# Altium footprint library PCB - CAPACITOR - ALUMINIUM - CAP ALSMD POLY 5.3MM H6.0MM.PCBLIB: 1 footprints
Each footprint in its own frame and in the unit in brackets; x right, y up, seen from the top. Pads: shape width x height; smd on the part's side, far side on the other; paste and mask are expansions set on the pad; w line width, h text height; cw(c..) or ccw(c..) is an arc to the next point about the centre after c.
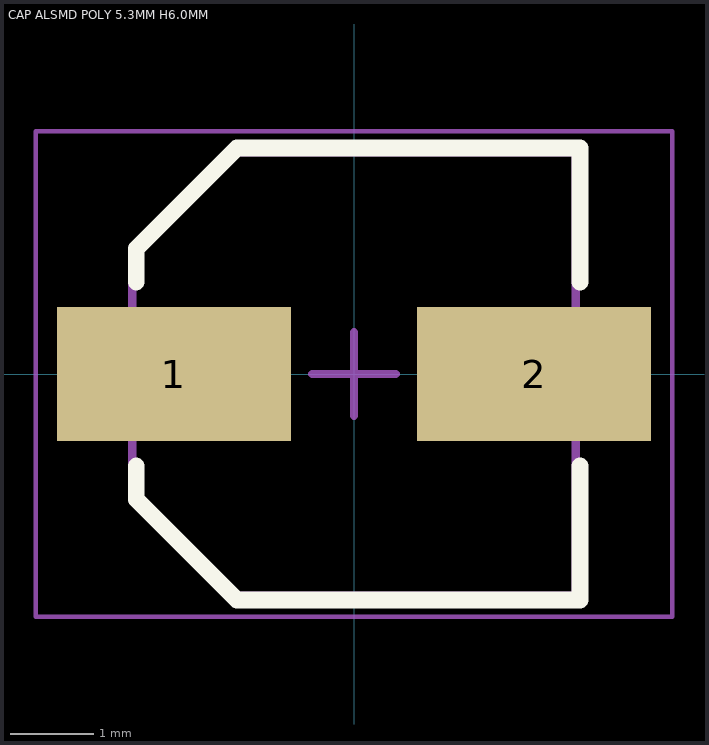
[diagram p0: the footprint, top view; thin cyan lines are the x and y axes]

## CAP ALSMD POLY 5.3MM H6.0MM [mm] "Aluminum Polymer Capacitor, Body 5.30x5.30x6.0mm, IPC Medium Density"
height 6
pads (2):
  rect 2.8x1.6 smd: 1(-2.15,0) 2(2.15,0)
Top Overlay:
  lines w0.2: -2.6,-1.1 -2.6,-1.5 -1.4,-2.7 2.7,-2.7 2.7,-1.1 ; -2.6,1.1 -2.6,1.5 -1.4,2.7 2.7,2.7 2.7,1.1
Mechanical 13:
  lines w0.1: -2.65,-1.5 -1.5,-2.65 2.65,-2.65 2.65,2.65 -1.475,2.65 -2.65,1.475 -2.65,-1.5
Mechanical 15:
  lines w0.05: -3.8,-2.9 3.8,-2.9 3.8,2.9 -3.8,2.9 -3.8,-2.9
  lines w0.1: -0.5,0 0.5,0 ; 0,-0.5 0,0.5
3D body "CAP ALSMD - POLY - 5.3 x 5.3 x 6.0.step": height 6, standoff 0, extent -2.95,-2.7 2.95,2.7